# EAGLE library part PROG_COMM_SPI_HEADER (library con-special_purpose)
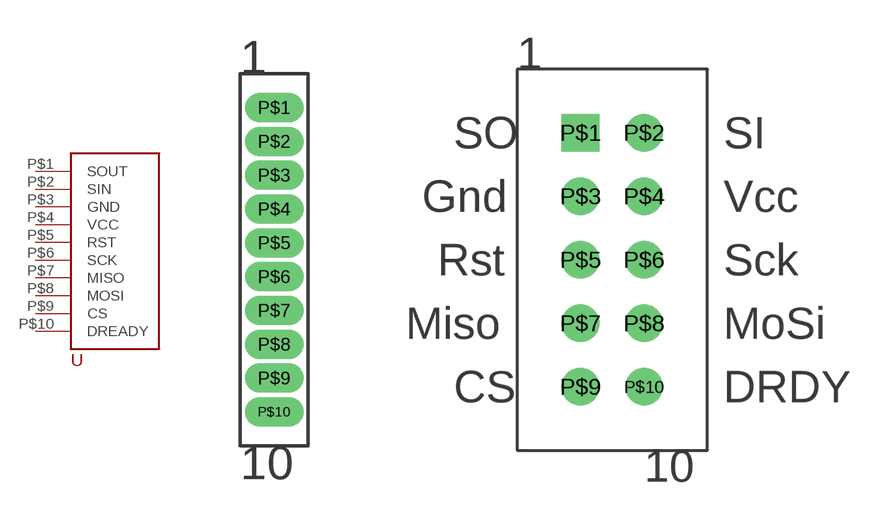
[diagram p3: symbol with the pads of HEADER0.5_10X1; footprints HEADER0.5_10X1, HEADER2.56_10X2]

Designator prefix -

## PROG_COMM_SPI_HEADERSINGLEROW (PLACE_PART: YES)  [HEADER0.5_10X1]
P$1  SOUT
P$2  SIN
P$3  GND
P$4  VCC
P$5  RST
P$6  SCK
P$7  MISO
P$8  MOSI
P$9  CS
P$10  DREADY

## PROG_COMM_SPI_HEADERDUALROW (PLACE_PART: YES)  [HEADER2.56_10X2]
Pads as for HEADER0.5_10X1

## PROG_COMM_SPI_HEADER (PLACE_PART: YES)  [HEADER05_10X1_SMD]
Pads as for HEADER0.5_10X1

## Footprint HEADER0.5_10X1 (pad centres in mm)
drill 0.6 pad 0.813 long: P$1 0,0; P$2 0,-1.27; P$3 0,-2.54; P$4 0,-3.81; P$5 0,-5.08; P$6 0,-6.35; P$7 0,-7.62; P$8 0,-8.89; P$9 0,-10.16; P$10 0,-11.43

## Footprint HEADER2.56_10X2 (pad centres in mm)
Custom Programming and comms header Header as used for the MicroIMU with UART, Programming and full SPI interface. Also comes as a 10x1 single row package.
drill 1 square: P$1 -2.54,5.08
drill 1: P$2 0,5.08; P$3 -2.54,2.54; P$4 0,2.54; P$5 -2.54,0; P$6 0,0; P$7 -2.54,-2.54; P$8 0,-2.54; P$9 -2.54,-5.08; P$10 0,-5.08

## Footprint HEADER05_10X1_SMD (pad centres in mm)
smd 1.524 x 0.889: P$1 0,6.35; P$2 0,5.08; P$3 0,3.81; P$4 0,2.54; P$5 0,1.27; P$6 0,0; P$7 0,-1.27; P$8 0,-2.54; P$9 0,-3.81; P$10 0,-5.08